# EAGLE library part XRP7620IH-F (library Exar_By_element14_Batch_1)
4-Channel Adjustable Current I2C controlled LED Driver
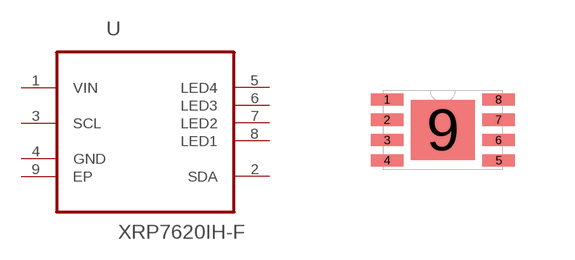
[diagram p100: symbol with the pads of DFN200X300X100-9N; footprint DFN200X300X100-9N]

Designator prefix U

## XRP7620IH-F (MPN: XRP7620IH-F; OC_FARNELL: 1829428; OC_NEWARK: 60R6694; PACKAGE: DFN-8; SUPPLIER: EXAR)  [DFN200X300X100-9N]
1  VIN  pwr
2  SDA
3  SCL  in
4  GND  pas
5  LED4  out
6  LED3  out
7  LED2  out
8  LED1  out
9  EP  pas

## Footprint DFN200X300X100-9N (pad centres in mm)
smd 0.813 x 0.305: 1 -1.397,0.762; 2 -1.397,0.254; 3 -1.397,-0.254; 4 -1.397,-0.762; 5 1.397,-0.762; 6 1.397,-0.254; 7 1.397,0.254; 8 1.397,0.762
smd 1.6 x 1.499: 9 0,0